# Altium integrated library Tactile switch 2pin_Library.IntLib: 1 symbol
Pins are listed as number, name and electrical type; pins without a type are passive.

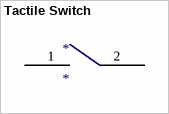
[diagram p0: symbol Tactile Switch]

## Tactile Switch
designator *
footprint Tactile switch 2 pin(6*6*..)
pins: 1 4, 2 4